# Altium schematic symbol library MCU_ST_STM32WB.SchLib: 22 symbols
Pins are listed as number, name and electrical type; pins without a type are passive.

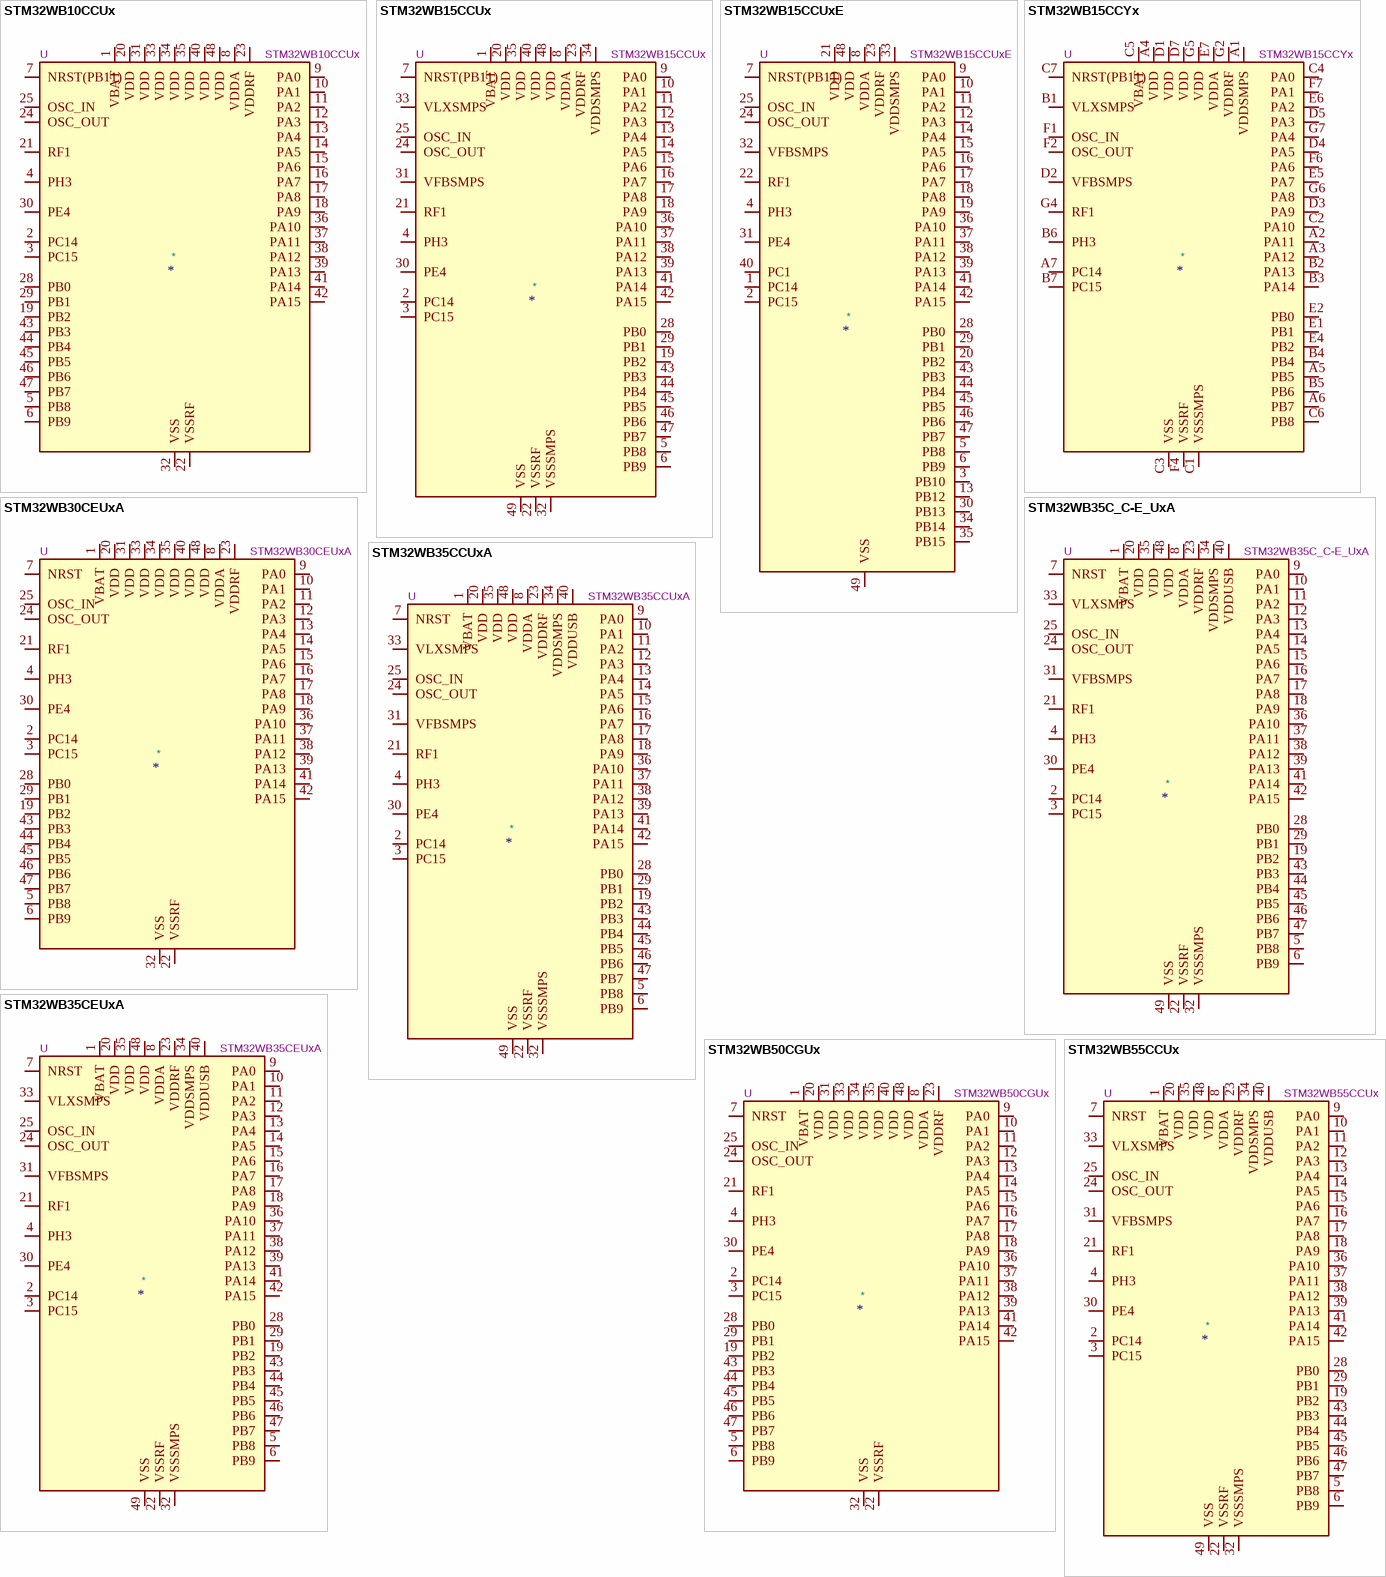
[diagram p0: symbols STM32WB10CCUx to STM32WB55CCUx]

## STM32WB10CCUx
designator *  value STM32WB10CCUx  Reference: U
ki_keywords: Arm Cortex-M4 STM32WB STM32WBx0 Value Line; ki_description: STMicroelectronics Arm Cortex-M4 MCU, 320KB flash, 48KB RAM, 64 MHz, 2.0-3.6V, 30 GPIO, UFQFPN48; ki_fp_filters: QFN*1EP*7x7mm*P0.5mm*; Footprint: Package_DFN_QFN:QFN-48-1EP_7x7mm_P0.5mm_EP5.6x5.6mm; Datasheet: https://www.st.com/resource/en/datasheet/stm32wb10cc.pdf
pins: 1 VBAT, 2 PC14, 3 PC15, 4 PH3, 5 PB8, 6 PB9, 7 NRST(PB11), 8 VDDA, 9 PA0, 10 PA1, 11 PA2, 12 PA3, 13 PA4, 14 PA5, 15 PA6, 16 PA7, 17 PA8, 18 PA9, 19 PB2, 20 VDD, 21 RF1, 22 VSSRF, 23 VDDRF, 24 OSC_OUT, 25 OSC_IN, 26 AT0 hidden, 27 AT1 hidden, 28 PB0, 29 PB1, 30 PE4, 31 VDD, 32 VSS, 33 VDD, 34 VDD, 35 VDD, 36 PA10, 37 PA11, 38 PA12, 39 PA13, 40 VDD, 41 PA14, 42 PA15, 43 PB3, 44 PB4, 45 PB5, 46 PB6, 47 PB7, 48 VDD, 49 VSS hidden

## STM32WB15CCUx
designator *  value STM32WB15CCUx  Reference: U
ki_keywords: Arm Cortex-M4 STM32WB STM32WBx5; ki_description: STMicroelectronics Arm Cortex-M4 MCU, 320KB flash, 48KB RAM, 64 MHz, 1.71-3.6V, 30 GPIO, UFQFPN48; ki_fp_filters: QFN*1EP*7x7mm*P0.5mm*; Footprint: Package_DFN_QFN:QFN-48-1EP_7x7mm_P0.5mm_EP5.6x5.6mm; Datasheet: https://www.st.com/resource/en/datasheet/stm32wb15cc.pdf
pins: 1 VBAT, 2 PC14, 3 PC15, 4 PH3, 5 PB8, 6 PB9, 7 NRST(PB11), 8 VDDA, 9 PA0, 10 PA1, 11 PA2, 12 PA3, 13 PA4, 14 PA5, 15 PA6, 16 PA7, 17 PA8, 18 PA9, 19 PB2, 20 VDD, 21 RF1, 22 VSSRF, 23 VDDRF, 24 OSC_OUT, 25 OSC_IN, 26 AT0 hidden, 27 AT1 hidden, 28 PB0, 29 PB1, 30 PE4, 31 VFBSMPS, 32 VSSSMPS, 33 VLXSMPS, 34 VDDSMPS, 35 VDD, 36 PA10, 37 PA11, 38 PA12, 39 PA13, 40 VDD, 41 PA14, 42 PA15, 43 PB3, 44 PB4, 45 PB5, 46 PB6, 47 PB7, 48 VDD, 49 VSS

## STM32WB15CCUxE
designator *  value STM32WB15CCUxE  Reference: U
ki_keywords: Arm Cortex-M4 STM32WB STM32WBx5; ki_description: STMicroelectronics Arm Cortex-M4 MCU, 320KB flash, 48KB RAM, 64 MHz, 1.71-3.6V, 36 GPIO, UFQFPN48; ki_fp_filters: QFN*1EP*7x7mm*P0.5mm*; Footprint: Package_DFN_QFN:QFN-48-1EP_7x7mm_P0.5mm_EP5.6x5.6mm; Datasheet: https://www.st.com/resource/en/datasheet/stm32wb15cc.pdf
pins: 1 PC14, 2 PC15, 3 PB10, 4 PH3, 5 PB8, 6 PB9, 7 NRST(PB11), 8 VDDA, 9 PA0, 10 PA1, 11 PA2, 12 PA3, 13 PB12, 14 PA4, 15 PA5, 16 PA6, 17 PA7, 18 PA8, 19 PA9, 20 PB2, 21 VDD, 22 RF1, 23 VDDRF, 24 OSC_OUT, 25 OSC_IN, 26 AT0 hidden, 27 AT1 hidden, 28 PB0, 29 PB1, 30 PB13, 31 PE4, 32 VFBSMPS, 33 VDDSMPS, 34 PB14, 35 PB15, 36 PA10, 37 PA11, 38 PA12, 39 PA13, 40 PC1, 41 PA14, 42 PA15, 43 PB3, 44 PB4, 45 PB5, 46 PB6, 47 PB7, 48 VDD, 49 VSS

## STM32WB15CCYx
designator *  value STM32WB15CCYx  Reference: U
ki_keywords: Arm Cortex-M4 STM32WB STM32WBx5; ki_description: STMicroelectronics Arm Cortex-M4 MCU, 320KB flash, 48KB RAM, 64 MHz, 1.71-3.6V, 26 GPIO, WLCSP49; Footprint: Package_CSP:ST_WLCSP-49_3.30x3.38mm_Layout7x7_P0.4mm_Offcenter; Datasheet: https://www.st.com/resource/en/datasheet/stm32wb15cc.pdf; ki_fp_filters: *
pins: A1 VDDSMPS, A2 PA11, A3 PA12, A4 VDD, A5 PB5, A6 PB7, A7 PC14, B1 VLXSMPS, B2 PA13, B3 PA14, B4 PB4, B5 PB6, B6 PH3, B7 PC15, C1 VSSSMPS, C2 PA10, C3 VSS, C4 PA0, C5 VBAT, C6 PB8, C7 NRST(PB11), D1 VDD, D2 VFBSMPS, D3 PA9, D4 PA5, D5 PA3, D6 VSS hidden, D7 VDD, E1 PB1, E2 PB0, E3 AT0 hidden, E4 PB2, E5 PA7, E6 PA2, E7 VDDA, F1 OSC_IN, F2 OSC_OUT, F3 AT1 hidden, F4 VSSRF, F5 VSS hidden, F6 PA6, F7 PA1, G1 VSSRF hidden, G2 VDDRF, G3 VSSRF hidden, G4 RF1, G5 VDD, G6 PA8, G7 PA4

## STM32WB30CEUxA
designator *  value STM32WB30CEUxA  Reference: U
ki_keywords: Arm Cortex-M4 STM32WB STM32WBx0 Value Line; ki_description: STMicroelectronics Arm Cortex-M4 MCU, 512KB flash, 96KB RAM, 30 GPIO, UFQFPN48; ki_fp_filters: QFN*1EP*7x7mm*P0.5mm*; Footprint: Package_DFN_QFN:QFN-48-1EP_7x7mm_P0.5mm_EP5.6x5.6mm; Datasheet: https://www.st.com/resource/en/datasheet/stm32wb30ce.pdf
pins: 1 VBAT, 2 PC14, 3 PC15, 4 PH3, 5 PB8, 6 PB9, 7 NRST, 8 VDDA, 9 PA0, 10 PA1, 11 PA2, 12 PA3, 13 PA4, 14 PA5, 15 PA6, 16 PA7, 17 PA8, 18 PA9, 19 PB2, 20 VDD, 21 RF1, 22 VSSRF, 23 VDDRF, 24 OSC_OUT, 25 OSC_IN, 26 AT0 hidden, 27 AT1 hidden, 28 PB0, 29 PB1, 30 PE4, 31 VDD, 32 VSS, 33 VDD, 34 VDD, 35 VDD, 36 PA10, 37 PA11, 38 PA12, 39 PA13, 40 VDD, 41 PA14, 42 PA15, 43 PB3, 44 PB4, 45 PB5, 46 PB6, 47 PB7, 48 VDD, 49 VSS hidden

## STM32WB35C_C-E_UxA
designator *  value STM32WB35C_C-E_UxA  Reference: U
ki_keywords: Arm Cortex-M4 STM32WB STM32WBx5; ki_description: STMicroelectronics Arm Cortex-M4 MCU, 256-512KB flash, 96KB RAM, 30 GPIO, UFQFPN48; ki_fp_filters: QFN*1EP*7x7mm*P0.5mm*; Footprint: Package_DFN_QFN:QFN-48-1EP_7x7mm_P0.5mm_EP5.6x5.6mm; Datasheet: https://www.st.com/resource/en/datasheet/stm32wb35cc.pdf
pins: 1 VBAT, 2 PC14, 3 PC15, 4 PH3, 5 PB8, 6 PB9, 7 NRST, 8 VDDA, 9 PA0, 10 PA1, 11 PA2, 12 PA3, 13 PA4, 14 PA5, 15 PA6, 16 PA7, 17 PA8, 18 PA9, 19 PB2, 20 VDD, 21 RF1, 22 VSSRF, 23 VDDRF, 24 OSC_OUT, 25 OSC_IN, 26 AT0 hidden, 27 AT1 hidden, 28 PB0, 29 PB1, 30 PE4, 31 VFBSMPS, 32 VSSSMPS, 33 VLXSMPS, 34 VDDSMPS, 35 VDD, 36 PA10, 37 PA11, 38 PA12, 39 PA13, 40 VDDUSB, 41 PA14, 42 PA15, 43 PB3, 44 PB4, 45 PB5, 46 PB6, 47 PB7, 48 VDD, 49 VSS

## STM32WB35CCUxA
designator *  value STM32WB35CCUxA  Reference: U
ki_keywords: Arm Cortex-M4 STM32WB STM32WBx5; ki_description: STMicroelectronics Arm Cortex-M4 MCU, 256KB flash, 96KB RAM, 30 GPIO, UFQFPN48; ki_fp_filters: QFN*1EP*7x7mm*P0.5mm*; Footprint: Package_DFN_QFN:QFN-48-1EP_7x7mm_P0.5mm_EP5.6x5.6mm; Datasheet: https://www.st.com/resource/en/datasheet/stm32wb35cc.pdf
pins: 1 VBAT, 2 PC14, 3 PC15, 4 PH3, 5 PB8, 6 PB9, 7 NRST, 8 VDDA, 9 PA0, 10 PA1, 11 PA2, 12 PA3, 13 PA4, 14 PA5, 15 PA6, 16 PA7, 17 PA8, 18 PA9, 19 PB2, 20 VDD, 21 RF1, 22 VSSRF, 23 VDDRF, 24 OSC_OUT, 25 OSC_IN, 26 AT0 hidden, 27 AT1 hidden, 28 PB0, 29 PB1, 30 PE4, 31 VFBSMPS, 32 VSSSMPS, 33 VLXSMPS, 34 VDDSMPS, 35 VDD, 36 PA10, 37 PA11, 38 PA12, 39 PA13, 40 VDDUSB, 41 PA14, 42 PA15, 43 PB3, 44 PB4, 45 PB5, 46 PB6, 47 PB7, 48 VDD, 49 VSS

## STM32WB35CEUxA
designator *  value STM32WB35CEUxA  Reference: U
ki_keywords: Arm Cortex-M4 STM32WB STM32WBx5; ki_description: STMicroelectronics Arm Cortex-M4 MCU, 512KB flash, 96KB RAM, 30 GPIO, UFQFPN48; ki_fp_filters: QFN*1EP*7x7mm*P0.5mm*; Footprint: Package_DFN_QFN:QFN-48-1EP_7x7mm_P0.5mm_EP5.6x5.6mm; Datasheet: https://www.st.com/resource/en/datasheet/stm32wb35ce.pdf
pins: 1 VBAT, 2 PC14, 3 PC15, 4 PH3, 5 PB8, 6 PB9, 7 NRST, 8 VDDA, 9 PA0, 10 PA1, 11 PA2, 12 PA3, 13 PA4, 14 PA5, 15 PA6, 16 PA7, 17 PA8, 18 PA9, 19 PB2, 20 VDD, 21 RF1, 22 VSSRF, 23 VDDRF, 24 OSC_OUT, 25 OSC_IN, 26 AT0 hidden, 27 AT1 hidden, 28 PB0, 29 PB1, 30 PE4, 31 VFBSMPS, 32 VSSSMPS, 33 VLXSMPS, 34 VDDSMPS, 35 VDD, 36 PA10, 37 PA11, 38 PA12, 39 PA13, 40 VDDUSB, 41 PA14, 42 PA15, 43 PB3, 44 PB4, 45 PB5, 46 PB6, 47 PB7, 48 VDD, 49 VSS

## STM32WB50CGUx
designator *  value STM32WB50CGUx  Reference: U
ki_keywords: Arm Cortex-M4 STM32WB STM32WBx0 Value Line; ki_description: STMicroelectronics Arm Cortex-M4 MCU, 1024KB flash, 128KB RAM, 64 MHz, 2.0-3.6V, 30 GPIO, UFQFPN48; ki_fp_filters: QFN*1EP*7x7mm*P0.5mm*; Footprint: Package_DFN_QFN:QFN-48-1EP_7x7mm_P0.5mm_EP5.6x5.6mm; Datasheet: https://www.st.com/resource/en/datasheet/stm32wb50cg.pdf
pins: 1 VBAT, 2 PC14, 3 PC15, 4 PH3, 5 PB8, 6 PB9, 7 NRST, 8 VDDA, 9 PA0, 10 PA1, 11 PA2, 12 PA3, 13 PA4, 14 PA5, 15 PA6, 16 PA7, 17 PA8, 18 PA9, 19 PB2, 20 VDD, 21 RF1, 22 VSSRF, 23 VDDRF, 24 OSC_OUT, 25 OSC_IN, 26 AT0 hidden, 27 AT1 hidden, 28 PB0, 29 PB1, 30 PE4, 31 VDD, 32 VSS, 33 VDD, 34 VDD, 35 VDD, 36 PA10, 37 PA11, 38 PA12, 39 PA13, 40 VDD, 41 PA14, 42 PA15, 43 PB3, 44 PB4, 45 PB5, 46 PB6, 47 PB7, 48 VDD, 49 VSS hidden

## STM32WB55CCUx
designator *  value STM32WB55CCUx  Reference: U
ki_keywords: Arm Cortex-M4 STM32WB STM32WBx5; ki_description: STMicroelectronics Arm Cortex-M4 MCU, 256KB flash, 128KB RAM, 64 MHz, 1.71-3.6V, 30 GPIO, UFQFPN48; ki_fp_filters: QFN*1EP*7x7mm*P0.5mm*; Footprint: Package_DFN_QFN:QFN-48-1EP_7x7mm_P0.5mm_EP5.6x5.6mm; Datasheet: https://www.st.com/resource/en/datasheet/stm32wb55cc.pdf
pins: 1 VBAT, 2 PC14, 3 PC15, 4 PH3, 5 PB8, 6 PB9, 7 NRST, 8 VDDA, 9 PA0, 10 PA1, 11 PA2, 12 PA3, 13 PA4, 14 PA5, 15 PA6, 16 PA7, 17 PA8, 18 PA9, 19 PB2, 20 VDD, 21 RF1, 22 VSSRF, 23 VDDRF, 24 OSC_OUT, 25 OSC_IN, 26 AT0 hidden, 27 AT1 hidden, 28 PB0, 29 PB1, 30 PE4, 31 VFBSMPS, 32 VSSSMPS, 33 VLXSMPS, 34 VDDSMPS, 35 VDD, 36 PA10, 37 PA11, 38 PA12, 39 PA13, 40 VDDUSB, 41 PA14, 42 PA15, 43 PB3, 44 PB4, 45 PB5, 46 PB6, 47 PB7, 48 VDD, 49 VSS

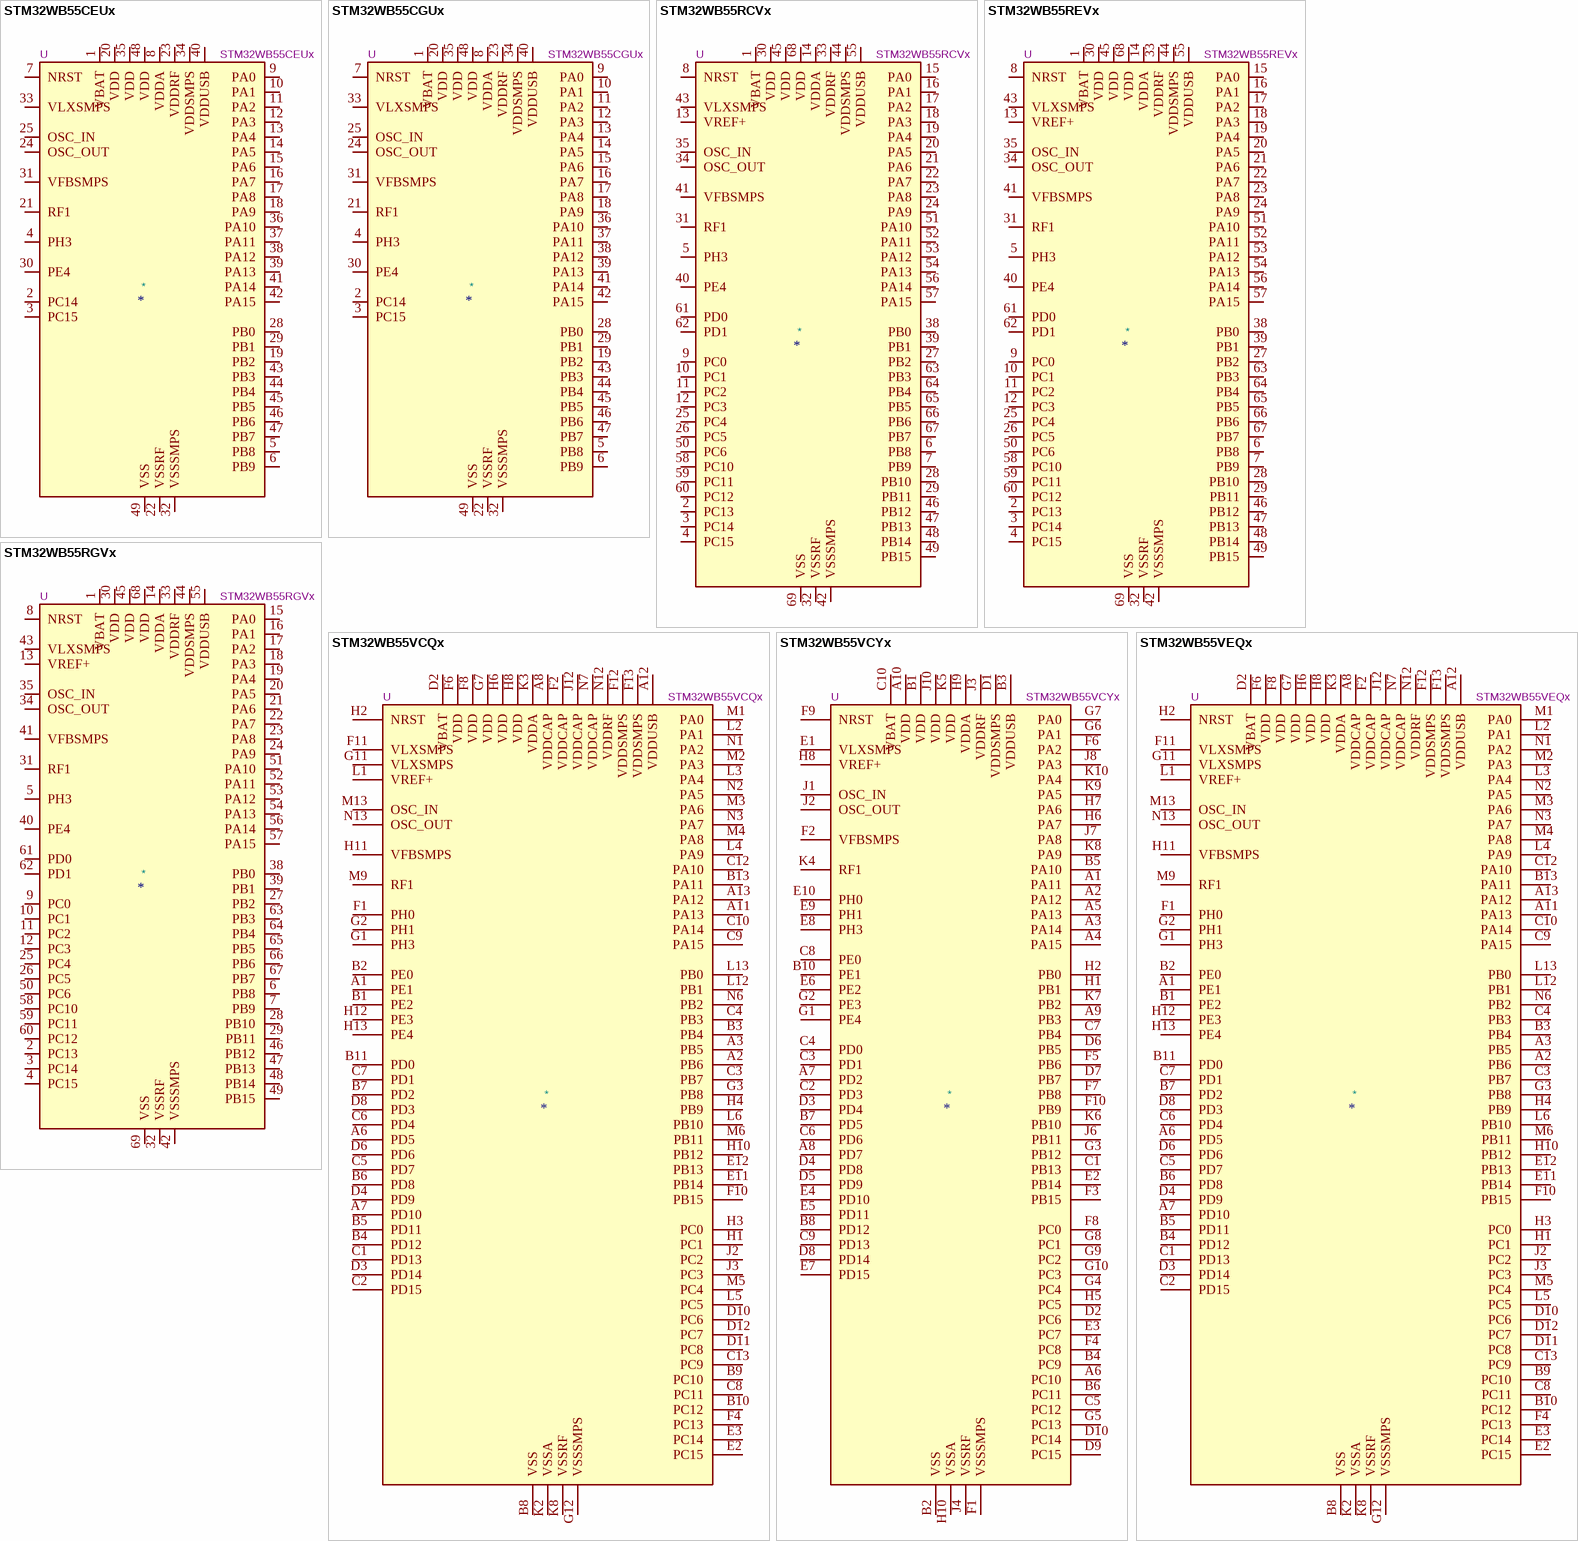
[diagram p1: symbols STM32WB55CEUx to STM32WB55VEQx]

## STM32WB55CEUx
designator *  value STM32WB55CEUx  Reference: U
ki_keywords: Arm Cortex-M4 STM32WB STM32WBx5; ki_description: STMicroelectronics Arm Cortex-M4 MCU, 512KB flash, 256KB RAM, 64 MHz, 1.71-3.6V, 30 GPIO, UFQFPN48; ki_fp_filters: QFN*1EP*7x7mm*P0.5mm*; Footprint: Package_DFN_QFN:QFN-48-1EP_7x7mm_P0.5mm_EP5.6x5.6mm; Datasheet: https://www.st.com/resource/en/datasheet/stm32wb55ce.pdf
pins: 1 VBAT, 2 PC14, 3 PC15, 4 PH3, 5 PB8, 6 PB9, 7 NRST, 8 VDDA, 9 PA0, 10 PA1, 11 PA2, 12 PA3, 13 PA4, 14 PA5, 15 PA6, 16 PA7, 17 PA8, 18 PA9, 19 PB2, 20 VDD, 21 RF1, 22 VSSRF, 23 VDDRF, 24 OSC_OUT, 25 OSC_IN, 26 AT0 hidden, 27 AT1 hidden, 28 PB0, 29 PB1, 30 PE4, 31 VFBSMPS, 32 VSSSMPS, 33 VLXSMPS, 34 VDDSMPS, 35 VDD, 36 PA10, 37 PA11, 38 PA12, 39 PA13, 40 VDDUSB, 41 PA14, 42 PA15, 43 PB3, 44 PB4, 45 PB5, 46 PB6, 47 PB7, 48 VDD, 49 VSS

## STM32WB55CGUx
designator *  value STM32WB55CGUx  Reference: U
ki_keywords: Arm Cortex-M4 STM32WB STM32WBx5; ki_description: STMicroelectronics Arm Cortex-M4 MCU, 1024KB flash, 256KB RAM, 64 MHz, 1.71-3.6V, 30 GPIO, UFQFPN48; ki_fp_filters: QFN*1EP*7x7mm*P0.5mm*; Footprint: Package_DFN_QFN:QFN-48-1EP_7x7mm_P0.5mm_EP5.6x5.6mm; Datasheet: https://www.st.com/resource/en/datasheet/stm32wb55cg.pdf
pins: 1 VBAT, 2 PC14, 3 PC15, 4 PH3, 5 PB8, 6 PB9, 7 NRST, 8 VDDA, 9 PA0, 10 PA1, 11 PA2, 12 PA3, 13 PA4, 14 PA5, 15 PA6, 16 PA7, 17 PA8, 18 PA9, 19 PB2, 20 VDD, 21 RF1, 22 VSSRF, 23 VDDRF, 24 OSC_OUT, 25 OSC_IN, 26 AT0 hidden, 27 AT1 hidden, 28 PB0, 29 PB1, 30 PE4, 31 VFBSMPS, 32 VSSSMPS, 33 VLXSMPS, 34 VDDSMPS, 35 VDD, 36 PA10, 37 PA11, 38 PA12, 39 PA13, 40 VDDUSB, 41 PA14, 42 PA15, 43 PB3, 44 PB4, 45 PB5, 46 PB6, 47 PB7, 48 VDD, 49 VSS

## STM32WB55RCVx
designator *  value STM32WB55RCVx  Reference: U
ki_keywords: Arm Cortex-M4 STM32WB STM32WBx5; ki_description: STMicroelectronics Arm Cortex-M4 MCU, 256KB flash, 128KB RAM, 64 MHz, 1.71-3.6V, 49 GPIO, VFQFPN68; ki_fp_filters: QFN*1EP*8x8mm*P0.4mm*; Footprint: Package_DFN_QFN:QFN-68-1EP_8x8mm_P0.4mm_EP6.4x6.4mm; Datasheet: https://www.st.com/resource/en/datasheet/stm32wb55rc.pdf
pins: 1 VBAT, 2 PC13, 3 PC14, 4 PC15, 5 PH3, 6 PB8, 7 PB9, 8 NRST, 9 PC0, 10 PC1, 11 PC2, 12 PC3, 13 VREF+, 14 VDDA, 15 PA0, 16 PA1, 17 PA2, 18 PA3, 19 PA4, 20 PA5, 21 PA6, 22 PA7, 23 PA8, 24 PA9, 25 PC4, 26 PC5, 27 PB2, 28 PB10, 29 PB11, 30 VDD, 31 RF1, 32 VSSRF, 33 VDDRF, 34 OSC_OUT, 35 OSC_IN, 36 AT0 hidden, 37 AT1 hidden, 38 PB0, 39 PB1, 40 PE4, 41 VFBSMPS, 42 VSSSMPS, 43 VLXSMPS, 44 VDDSMPS, 45 VDD, 46 PB12, 47 PB13, 48 PB14, 49 PB15, 50 PC6, 51 PA10, 52 PA11, 53 PA12, 54 PA13, 55 VDDUSB, 56 PA14, 57 PA15, 58 PC10, 59 PC11, 60 PC12, 61 PD0, 62 PD1, 63 PB3, 64 PB4, 65 PB5, 66 PB6, 67 PB7, 68 VDD, 69 VSS

## STM32WB55REVx
designator *  value STM32WB55REVx  Reference: U
ki_keywords: Arm Cortex-M4 STM32WB STM32WBx5; ki_description: STMicroelectronics Arm Cortex-M4 MCU, 512KB flash, 256KB RAM, 64 MHz, 1.71-3.6V, 49 GPIO, VFQFPN68; ki_fp_filters: QFN*1EP*8x8mm*P0.4mm*; Footprint: Package_DFN_QFN:QFN-68-1EP_8x8mm_P0.4mm_EP6.4x6.4mm; Datasheet: https://www.st.com/resource/en/datasheet/stm32wb55re.pdf
pins: 1 VBAT, 2 PC13, 3 PC14, 4 PC15, 5 PH3, 6 PB8, 7 PB9, 8 NRST, 9 PC0, 10 PC1, 11 PC2, 12 PC3, 13 VREF+, 14 VDDA, 15 PA0, 16 PA1, 17 PA2, 18 PA3, 19 PA4, 20 PA5, 21 PA6, 22 PA7, 23 PA8, 24 PA9, 25 PC4, 26 PC5, 27 PB2, 28 PB10, 29 PB11, 30 VDD, 31 RF1, 32 VSSRF, 33 VDDRF, 34 OSC_OUT, 35 OSC_IN, 36 AT0 hidden, 37 AT1 hidden, 38 PB0, 39 PB1, 40 PE4, 41 VFBSMPS, 42 VSSSMPS, 43 VLXSMPS, 44 VDDSMPS, 45 VDD, 46 PB12, 47 PB13, 48 PB14, 49 PB15, 50 PC6, 51 PA10, 52 PA11, 53 PA12, 54 PA13, 55 VDDUSB, 56 PA14, 57 PA15, 58 PC10, 59 PC11, 60 PC12, 61 PD0, 62 PD1, 63 PB3, 64 PB4, 65 PB5, 66 PB6, 67 PB7, 68 VDD, 69 VSS

## STM32WB55RGVx
designator *  value STM32WB55RGVx  Reference: U
ki_keywords: Arm Cortex-M4 STM32WB STM32WBx5; ki_description: STMicroelectronics Arm Cortex-M4 MCU, 1024KB flash, 256KB RAM, 64 MHz, 1.71-3.6V, 49 GPIO, VFQFPN68; ki_fp_filters: QFN*1EP*8x8mm*P0.4mm*; Footprint: Package_DFN_QFN:QFN-68-1EP_8x8mm_P0.4mm_EP6.4x6.4mm; Datasheet: https://www.st.com/resource/en/datasheet/stm32wb55rg.pdf
pins: 1 VBAT, 2 PC13, 3 PC14, 4 PC15, 5 PH3, 6 PB8, 7 PB9, 8 NRST, 9 PC0, 10 PC1, 11 PC2, 12 PC3, 13 VREF+, 14 VDDA, 15 PA0, 16 PA1, 17 PA2, 18 PA3, 19 PA4, 20 PA5, 21 PA6, 22 PA7, 23 PA8, 24 PA9, 25 PC4, 26 PC5, 27 PB2, 28 PB10, 29 PB11, 30 VDD, 31 RF1, 32 VSSRF, 33 VDDRF, 34 OSC_OUT, 35 OSC_IN, 36 AT0 hidden, 37 AT1 hidden, 38 PB0, 39 PB1, 40 PE4, 41 VFBSMPS, 42 VSSSMPS, 43 VLXSMPS, 44 VDDSMPS, 45 VDD, 46 PB12, 47 PB13, 48 PB14, 49 PB15, 50 PC6, 51 PA10, 52 PA11, 53 PA12, 54 PA13, 55 VDDUSB, 56 PA14, 57 PA15, 58 PC10, 59 PC11, 60 PC12, 61 PD0, 62 PD1, 63 PB3, 64 PB4, 65 PB5, 66 PB6, 67 PB7, 68 VDD, 69 VSS

## STM32WB55VCQx
designator *  value STM32WB55VCQx  Reference: U
ki_keywords: Arm Cortex-M4 STM32WB STM32WBx5; ki_description: STMicroelectronics Arm Cortex-M4 MCU, 256KB flash, 128KB RAM, 64 MHz, 1.71-3.6V, 72 GPIO, UFBGA129; ki_fp_filters: *UFBGA*7x7mm*Layout13x13*P0.5mm*; Footprint: Package_BGA:ST_UFBGA-129_7x7mm_Layout13x13_P0.5mm; Datasheet: https://www.st.com/resource/en/datasheet/stm32wb55vc.pdf
pins: A1 PE1, A2 PB6, A3 PB5, A6 PD5, A7 PD10, A8 VDDCAP, A11 PA13, A12 VDDUSB, A13 PA12, B1 PE2, B2 PE0, B3 PB4, B4 PD12, B5 PD11, B6 PD8, B7 PD2, B8 VSS, B9 PC10, B10 PC12, B11 PD0, B12 VSS hidden, B13 PA11, C1 PD13, C2 PD15, C3 PB7, C4 PB3, C5 PD7, C6 PD4, C7 PD1, C8 PC11, C9 PA15, C10 PA14, C11 VSS hidden, C12 PA10, C13 PC9, D2 VBAT, D3 PD14, D4 PD9, D6 PD6, D8 PD3, D10 PC6, D11 PC8, D12 PC7, E2 PC15, E3 PC14, E5 VSS hidden, E7 VSS hidden, E9 VSS hidden, E11 PB14, E12 PB13, F1 PH0, F2 VDDCAP, F3 VSS hidden, F4 PC13, F6 VDD, F8 VDD, F10 PB15, F11 VLXSMPS, F12 VDDSMPS, F13 VDDSMPS, G1 PH3, G2 PH1, G3 PB8, G5 VSS hidden, G7 VDD, G9 VSS hidden, G11 VLXSMPS, G12 VSSSMPS, G13 VSSSMPS hidden, H1 PC1, H2 NRST, H3 PC0, H4 PB9, H6 VDD, H8 VDD, H10 PB12, H11 VFBSMPS, H12 PE3, H13 PE4, J2 PC2, J3 PC3, J5 VSS hidden, J7 VSS hidden, J9 VSS hidden, J11 VSS hidden, J12 VDDCAP, K2 VSSA, K3 VDDA, K4 VSS hidden, K6 VSS hidden, K8 VSSRF, K10 VSSRF hidden, K11 AT0 hidden, K12 AT1 hidden, L1 VREF+, L2 PA1, L3 PA4, L4 PA9, L5 PC5, L6 PB10, L7 VSSRF hidden, L8 VSSRF hidden, L9 VSSRF hidden, L10 VSSRF hidden, L11 VSSRF hidden, L12 PB1, L13 PB0, M1 PA0, M2 PA3, M3 PA6, M4 PA8, M5 PC4, M6 PB11, M7 VSS hidden, M8 VSSRF hidden, M9 RF1, M10 VSSRF hidden, M11 VSSRF hidden, M12 VSSRF hidden, M13 OSC_IN, N1 PA2, N2 PA5, N3 PA7, N6 PB2, N7 VDDCAP, N8 VSSRF hidden, N11 VSSRF hidden, N12 VDDRF, N13 OSC_OUT

## STM32WB55VCYx
designator *  value STM32WB55VCYx  Reference: U
ki_keywords: Arm Cortex-M4 STM32WB STM32WBx5; ki_description: STMicroelectronics Arm Cortex-M4 MCU, 256KB flash, 128KB RAM, 64 MHz, 1.71-3.6V, 72 GPIO, WLCSP100; Footprint: Package_CSP:ST_WLCSP-100_4.40x4.38mm_Layout10x10_P0.4mm_Offcenter; Datasheet: https://www.st.com/resource/en/datasheet/stm32wb55vc.pdf; ki_fp_filters: *
pins: A1 PA11, A2 PA12, A3 PA14, A4 PA15, A5 PA13, A6 PC10, A7 PD2, A8 PD7, A9 PB3, A10 VDD, B1 VDD, B2 VSS, B3 VDDUSB, B4 PC9, B5 PA10, B6 PC11, B7 PD5, B8 PD12, B9 VSS hidden, B10 PE1, C1 PB13, C2 PD3, C3 PD1, C4 PD0, C5 PC12, C6 PD6, C7 PB4, C8 PE0, C9 PD13, C10 VBAT, D1 VDDSMPS, D2 PC6, D3 PD4, D4 PD8, D5 PD9, D6 PB5, D7 PB7, D8 PD14, D9 PC15, D10 PC14, E1 VLXSMPS, E2 PB14, E3 PC7, E4 PD10, E5 PD11, E6 PE2, E7 PD15, E8 PH3, E9 PH1, E10 PH0, F1 VSSSMPS, F2 VFBSMPS, F3 PB15, F4 PC8, F5 PB6, F6 PA2, F7 PB8, F8 PC0, F9 NRST, F10 PB9, G1 PE4, G2 PE3, G3 PB12, G4 PC4, G5 PC13, G6 PA1, G7 PA0, G8 PC1, G9 PC2, G10 PC3, H1 PB1, H2 PB0, H3 AT0 hidden, H4 AT1 hidden, H5 PC5, H6 PA7, H7 PA6, H8 VREF+, H9 VDDA, H10 VSSA, J1 OSC_IN, J2 OSC_OUT, J3 VDDRF, J4 VSSRF, J5 VSS hidden, J6 PB11, J7 PA8, J8 PA3, J9 VSS hidden, J10 VDD, K1 VSSRF hidden, K2 VSSRF hidden, K3 VSSRF hidden, K4 RF1, K5 VDD, K6 PB10, K7 PB2, K8 PA9, K9 PA5, K10 PA4

## STM32WB55VEQx
designator *  value STM32WB55VEQx  Reference: U
ki_keywords: Arm Cortex-M4 STM32WB STM32WBx5; ki_description: STMicroelectronics Arm Cortex-M4 MCU, 512KB flash, 256KB RAM, 64 MHz, 1.71-3.6V, 72 GPIO, UFBGA129; ki_fp_filters: *UFBGA*7x7mm*Layout13x13*P0.5mm*; Footprint: Package_BGA:ST_UFBGA-129_7x7mm_Layout13x13_P0.5mm; Datasheet: https://www.st.com/resource/en/datasheet/stm32wb55ve.pdf
pins: A1 PE1, A2 PB6, A3 PB5, A6 PD5, A7 PD10, A8 VDDCAP, A11 PA13, A12 VDDUSB, A13 PA12, B1 PE2, B2 PE0, B3 PB4, B4 PD12, B5 PD11, B6 PD8, B7 PD2, B8 VSS, B9 PC10, B10 PC12, B11 PD0, B12 VSS hidden, B13 PA11, C1 PD13, C2 PD15, C3 PB7, C4 PB3, C5 PD7, C6 PD4, C7 PD1, C8 PC11, C9 PA15, C10 PA14, C11 VSS hidden, C12 PA10, C13 PC9, D2 VBAT, D3 PD14, D4 PD9, D6 PD6, D8 PD3, D10 PC6, D11 PC8, D12 PC7, E2 PC15, E3 PC14, E5 VSS hidden, E7 VSS hidden, E9 VSS hidden, E11 PB14, E12 PB13, F1 PH0, F2 VDDCAP, F3 VSS hidden, F4 PC13, F6 VDD, F8 VDD, F10 PB15, F11 VLXSMPS, F12 VDDSMPS, F13 VDDSMPS, G1 PH3, G2 PH1, G3 PB8, G5 VSS hidden, G7 VDD, G9 VSS hidden, G11 VLXSMPS, G12 VSSSMPS, G13 VSSSMPS hidden, H1 PC1, H2 NRST, H3 PC0, H4 PB9, H6 VDD, H8 VDD, H10 PB12, H11 VFBSMPS, H12 PE3, H13 PE4, J2 PC2, J3 PC3, J5 VSS hidden, J7 VSS hidden, J9 VSS hidden, J11 VSS hidden, J12 VDDCAP, K2 VSSA, K3 VDDA, K4 VSS hidden, K6 VSS hidden, K8 VSSRF, K10 VSSRF hidden, K11 AT0 hidden, K12 AT1 hidden, L1 VREF+, L2 PA1, L3 PA4, L4 PA9, L5 PC5, L6 PB10, L7 VSSRF hidden, L8 VSSRF hidden, L9 VSSRF hidden, L10 VSSRF hidden, L11 VSSRF hidden, L12 PB1, L13 PB0, M1 PA0, M2 PA3, M3 PA6, M4 PA8, M5 PC4, M6 PB11, M7 VSS hidden, M8 VSSRF hidden, M9 RF1, M10 VSSRF hidden, M11 VSSRF hidden, M12 VSSRF hidden, M13 OSC_IN, N1 PA2, N2 PA5, N3 PA7, N6 PB2, N7 VDDCAP, N8 VSSRF hidden, N11 VSSRF hidden, N12 VDDRF, N13 OSC_OUT

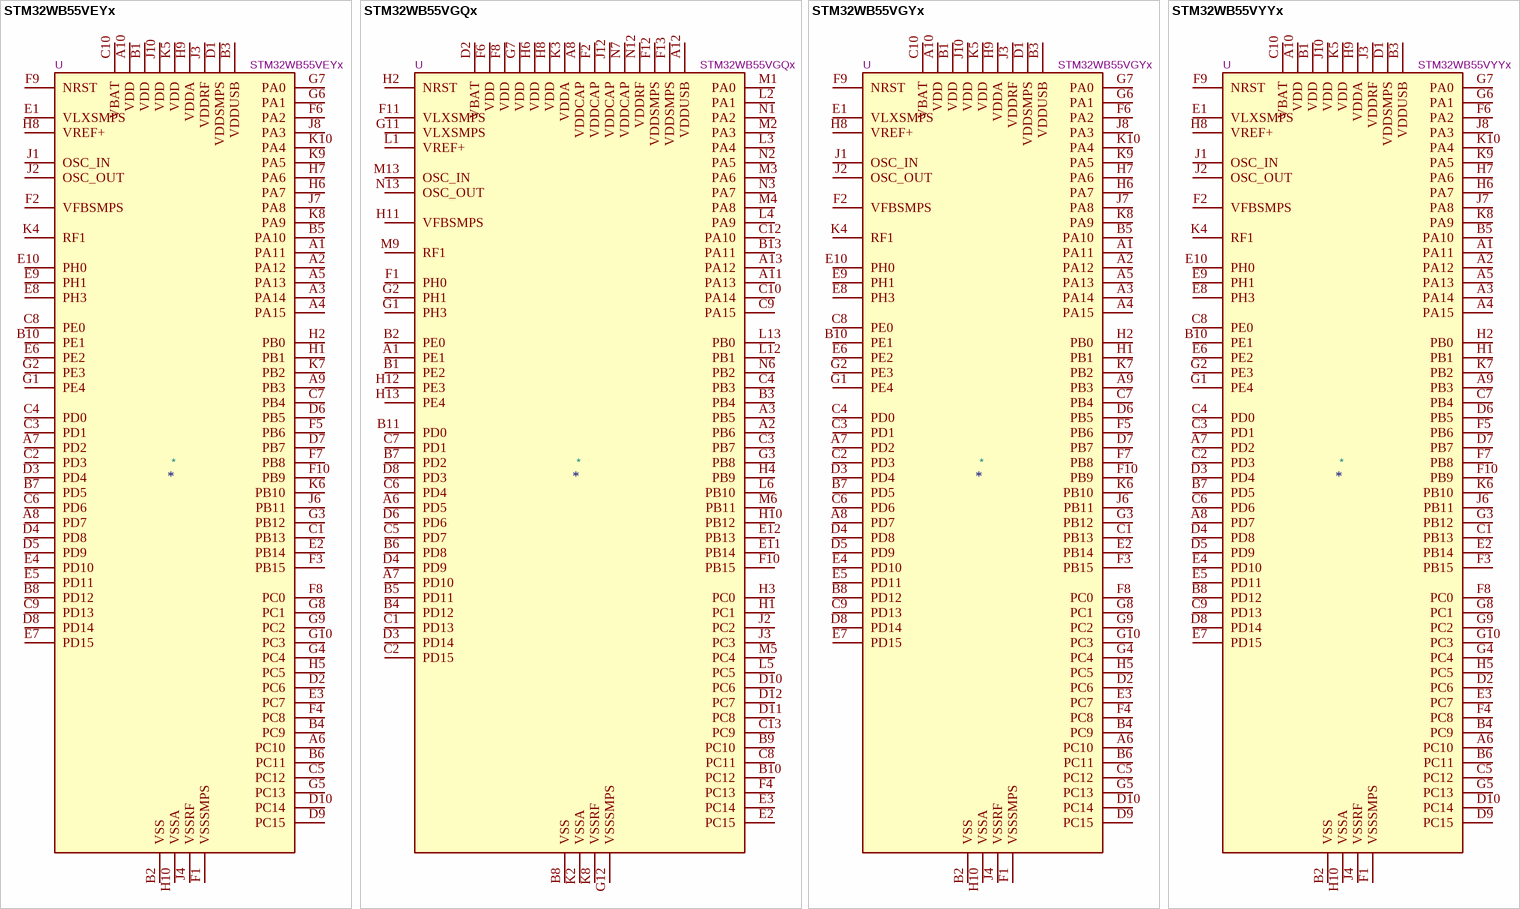
[diagram p2: symbols STM32WB55VEYx to STM32WB55VYYx]

## STM32WB55VEYx
designator *  value STM32WB55VEYx  Reference: U
ki_keywords: Arm Cortex-M4 STM32WB STM32WBx5; ki_description: STMicroelectronics Arm Cortex-M4 MCU, 512KB flash, 256KB RAM, 64 MHz, 1.71-3.6V, 72 GPIO, WLCSP100; Footprint: Package_CSP:ST_WLCSP-100_4.40x4.38mm_Layout10x10_P0.4mm_Offcenter; Datasheet: https://www.st.com/resource/en/datasheet/stm32wb55ve.pdf; ki_fp_filters: *
pins: A1 PA11, A2 PA12, A3 PA14, A4 PA15, A5 PA13, A6 PC10, A7 PD2, A8 PD7, A9 PB3, A10 VDD, B1 VDD, B2 VSS, B3 VDDUSB, B4 PC9, B5 PA10, B6 PC11, B7 PD5, B8 PD12, B9 VSS hidden, B10 PE1, C1 PB13, C2 PD3, C3 PD1, C4 PD0, C5 PC12, C6 PD6, C7 PB4, C8 PE0, C9 PD13, C10 VBAT, D1 VDDSMPS, D2 PC6, D3 PD4, D4 PD8, D5 PD9, D6 PB5, D7 PB7, D8 PD14, D9 PC15, D10 PC14, E1 VLXSMPS, E2 PB14, E3 PC7, E4 PD10, E5 PD11, E6 PE2, E7 PD15, E8 PH3, E9 PH1, E10 PH0, F1 VSSSMPS, F2 VFBSMPS, F3 PB15, F4 PC8, F5 PB6, F6 PA2, F7 PB8, F8 PC0, F9 NRST, F10 PB9, G1 PE4, G2 PE3, G3 PB12, G4 PC4, G5 PC13, G6 PA1, G7 PA0, G8 PC1, G9 PC2, G10 PC3, H1 PB1, H2 PB0, H3 AT0 hidden, H4 AT1 hidden, H5 PC5, H6 PA7, H7 PA6, H8 VREF+, H9 VDDA, H10 VSSA, J1 OSC_IN, J2 OSC_OUT, J3 VDDRF, J4 VSSRF, J5 VSS hidden, J6 PB11, J7 PA8, J8 PA3, J9 VSS hidden, J10 VDD, K1 VSSRF hidden, K2 VSSRF hidden, K3 VSSRF hidden, K4 RF1, K5 VDD, K6 PB10, K7 PB2, K8 PA9, K9 PA5, K10 PA4

## STM32WB55VGQx
designator *  value STM32WB55VGQx  Reference: U
ki_keywords: Arm Cortex-M4 STM32WB STM32WBx5; ki_description: STMicroelectronics Arm Cortex-M4 MCU, 1024KB flash, 256KB RAM, 64 MHz, 1.71-3.6V, 72 GPIO, UFBGA129; ki_fp_filters: *UFBGA*7x7mm*Layout13x13*P0.5mm*; Footprint: Package_BGA:ST_UFBGA-129_7x7mm_Layout13x13_P0.5mm; Datasheet: https://www.st.com/resource/en/datasheet/stm32wb55vg.pdf
pins: A1 PE1, A2 PB6, A3 PB5, A6 PD5, A7 PD10, A8 VDDCAP, A11 PA13, A12 VDDUSB, A13 PA12, B1 PE2, B2 PE0, B3 PB4, B4 PD12, B5 PD11, B6 PD8, B7 PD2, B8 VSS, B9 PC10, B10 PC12, B11 PD0, B12 VSS hidden, B13 PA11, C1 PD13, C2 PD15, C3 PB7, C4 PB3, C5 PD7, C6 PD4, C7 PD1, C8 PC11, C9 PA15, C10 PA14, C11 VSS hidden, C12 PA10, C13 PC9, D2 VBAT, D3 PD14, D4 PD9, D6 PD6, D8 PD3, D10 PC6, D11 PC8, D12 PC7, E2 PC15, E3 PC14, E5 VSS hidden, E7 VSS hidden, E9 VSS hidden, E11 PB14, E12 PB13, F1 PH0, F2 VDDCAP, F3 VSS hidden, F4 PC13, F6 VDD, F8 VDD, F10 PB15, F11 VLXSMPS, F12 VDDSMPS, F13 VDDSMPS, G1 PH3, G2 PH1, G3 PB8, G5 VSS hidden, G7 VDD, G9 VSS hidden, G11 VLXSMPS, G12 VSSSMPS, G13 VSSSMPS hidden, H1 PC1, H2 NRST, H3 PC0, H4 PB9, H6 VDD, H8 VDD, H10 PB12, H11 VFBSMPS, H12 PE3, H13 PE4, J2 PC2, J3 PC3, J5 VSS hidden, J7 VSS hidden, J9 VSS hidden, J11 VSS hidden, J12 VDDCAP, K2 VSSA, K3 VDDA, K4 VSS hidden, K6 VSS hidden, K8 VSSRF, K10 VSSRF hidden, K11 AT0 hidden, K12 AT1 hidden, L1 VREF+, L2 PA1, L3 PA4, L4 PA9, L5 PC5, L6 PB10, L7 VSSRF hidden, L8 VSSRF hidden, L9 VSSRF hidden, L10 VSSRF hidden, L11 VSSRF hidden, L12 PB1, L13 PB0, M1 PA0, M2 PA3, M3 PA6, M4 PA8, M5 PC4, M6 PB11, M7 VSS hidden, M8 VSSRF hidden, M9 RF1, M10 VSSRF hidden, M11 VSSRF hidden, M12 VSSRF hidden, M13 OSC_IN, N1 PA2, N2 PA5, N3 PA7, N6 PB2, N7 VDDCAP, N8 VSSRF hidden, N11 VSSRF hidden, N12 VDDRF, N13 OSC_OUT

## STM32WB55VGYx
designator *  value STM32WB55VGYx  Reference: U
ki_keywords: Arm Cortex-M4 STM32WB STM32WBx5; ki_description: STMicroelectronics Arm Cortex-M4 MCU, 1024KB flash, 256KB RAM, 64 MHz, 1.71-3.6V, 72 GPIO, WLCSP100; Footprint: Package_CSP:ST_WLCSP-100_4.40x4.38mm_Layout10x10_P0.4mm_Offcenter; Datasheet: https://www.st.com/resource/en/datasheet/stm32wb55vg.pdf; ki_fp_filters: *
pins: A1 PA11, A2 PA12, A3 PA14, A4 PA15, A5 PA13, A6 PC10, A7 PD2, A8 PD7, A9 PB3, A10 VDD, B1 VDD, B2 VSS, B3 VDDUSB, B4 PC9, B5 PA10, B6 PC11, B7 PD5, B8 PD12, B9 VSS hidden, B10 PE1, C1 PB13, C2 PD3, C3 PD1, C4 PD0, C5 PC12, C6 PD6, C7 PB4, C8 PE0, C9 PD13, C10 VBAT, D1 VDDSMPS, D2 PC6, D3 PD4, D4 PD8, D5 PD9, D6 PB5, D7 PB7, D8 PD14, D9 PC15, D10 PC14, E1 VLXSMPS, E2 PB14, E3 PC7, E4 PD10, E5 PD11, E6 PE2, E7 PD15, E8 PH3, E9 PH1, E10 PH0, F1 VSSSMPS, F2 VFBSMPS, F3 PB15, F4 PC8, F5 PB6, F6 PA2, F7 PB8, F8 PC0, F9 NRST, F10 PB9, G1 PE4, G2 PE3, G3 PB12, G4 PC4, G5 PC13, G6 PA1, G7 PA0, G8 PC1, G9 PC2, G10 PC3, H1 PB1, H2 PB0, H3 AT0 hidden, H4 AT1 hidden, H5 PC5, H6 PA7, H7 PA6, H8 VREF+, H9 VDDA, H10 VSSA, J1 OSC_IN, J2 OSC_OUT, J3 VDDRF, J4 VSSRF, J5 VSS hidden, J6 PB11, J7 PA8, J8 PA3, J9 VSS hidden, J10 VDD, K1 VSSRF hidden, K2 VSSRF hidden, K3 VSSRF hidden, K4 RF1, K5 VDD, K6 PB10, K7 PB2, K8 PA9, K9 PA5, K10 PA4

## STM32WB55VYYx
designator *  value STM32WB55VYYx  Reference: U
ki_keywords: Arm Cortex-M4 STM32WB STM32WBx5; ki_description: STMicroelectronics Arm Cortex-M4 MCU, 640KB flash, 256KB RAM, 64 MHz, 1.71-3.6V, 72 GPIO, WLCSP100; Footprint: Package_CSP:ST_WLCSP-100_4.40x4.38mm_Layout10x10_P0.4mm_Offcenter; Datasheet: https://www.st.com/resource/en/datasheet/stm32wb55vy.pdf; ki_fp_filters: *
pins: A1 PA11, A2 PA12, A3 PA14, A4 PA15, A5 PA13, A6 PC10, A7 PD2, A8 PD7, A9 PB3, A10 VDD, B1 VDD, B2 VSS, B3 VDDUSB, B4 PC9, B5 PA10, B6 PC11, B7 PD5, B8 PD12, B9 VSS hidden, B10 PE1, C1 PB13, C2 PD3, C3 PD1, C4 PD0, C5 PC12, C6 PD6, C7 PB4, C8 PE0, C9 PD13, C10 VBAT, D1 VDDSMPS, D2 PC6, D3 PD4, D4 PD8, D5 PD9, D6 PB5, D7 PB7, D8 PD14, D9 PC15, D10 PC14, E1 VLXSMPS, E2 PB14, E3 PC7, E4 PD10, E5 PD11, E6 PE2, E7 PD15, E8 PH3, E9 PH1, E10 PH0, F1 VSSSMPS, F2 VFBSMPS, F3 PB15, F4 PC8, F5 PB6, F6 PA2, F7 PB8, F8 PC0, F9 NRST, F10 PB9, G1 PE4, G2 PE3, G3 PB12, G4 PC4, G5 PC13, G6 PA1, G7 PA0, G8 PC1, G9 PC2, G10 PC3, H1 PB1, H2 PB0, H3 AT0 hidden, H4 AT1 hidden, H5 PC5, H6 PA7, H7 PA6, H8 VREF+, H9 VDDA, H10 VSSA, J1 OSC_IN, J2 OSC_OUT, J3 VDDRF, J4 VSSRF, J5 VSS hidden, J6 PB11, J7 PA8, J8 PA3, J9 VSS hidden, J10 VDD, K1 VSSRF hidden, K2 VSSRF hidden, K3 VSSRF hidden, K4 RF1, K5 VDD, K6 PB10, K7 PB2, K8 PA9, K9 PA5, K10 PA4